# Altium integrated library RA-02_LORA.IntLib: 1 symbol
Pins are listed as number, name and electrical type; pins without a type are passive.

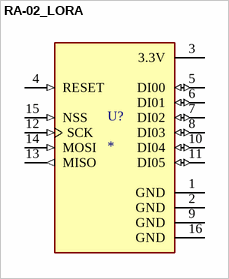
[diagram p0: symbol RA-02_LORA]

## RA-02_LORA
designator U?
Ra-02 LoRa RF M5Stack Platform Evaluation Expansion Board; MF: AI-Thinker; Package: Package; Availability: Unavailable; Value: *; MP: Ra-02 LoRa; Check_prices: https://www.snapeda.com/parts/Ra-02%20LoRa/AI-Thinker/view-part/4449259/?ref=eda; SnapEDA_Link: https://www.snapeda.com/parts/Ra-02%20LoRa/AI-Thinker/view-part/4449259/?ref=snap; Price: None
footprint MODULE_RA-02_LORA
footprint MODULE_RA-02_LORA
pins: 1 GND (power), 2 GND (power), 3 3.3V (power), 4 RESET (in), 5 DI00 (io), 6 DI01 (io), 7 DI02 (io), 8 DI03 (io), 9 GND (power), 10 DI04 (io), 11 DI05 (io), 12 SCK (in), 13 MISO (out), 14 MOSI (in), 15 NSS (in), 16 GND (power)